# Altium schematic symbol library Connector DSUB.SchLib: 33 symbols
Pins are listed as number, name and electrical type; pins without a type are passive.

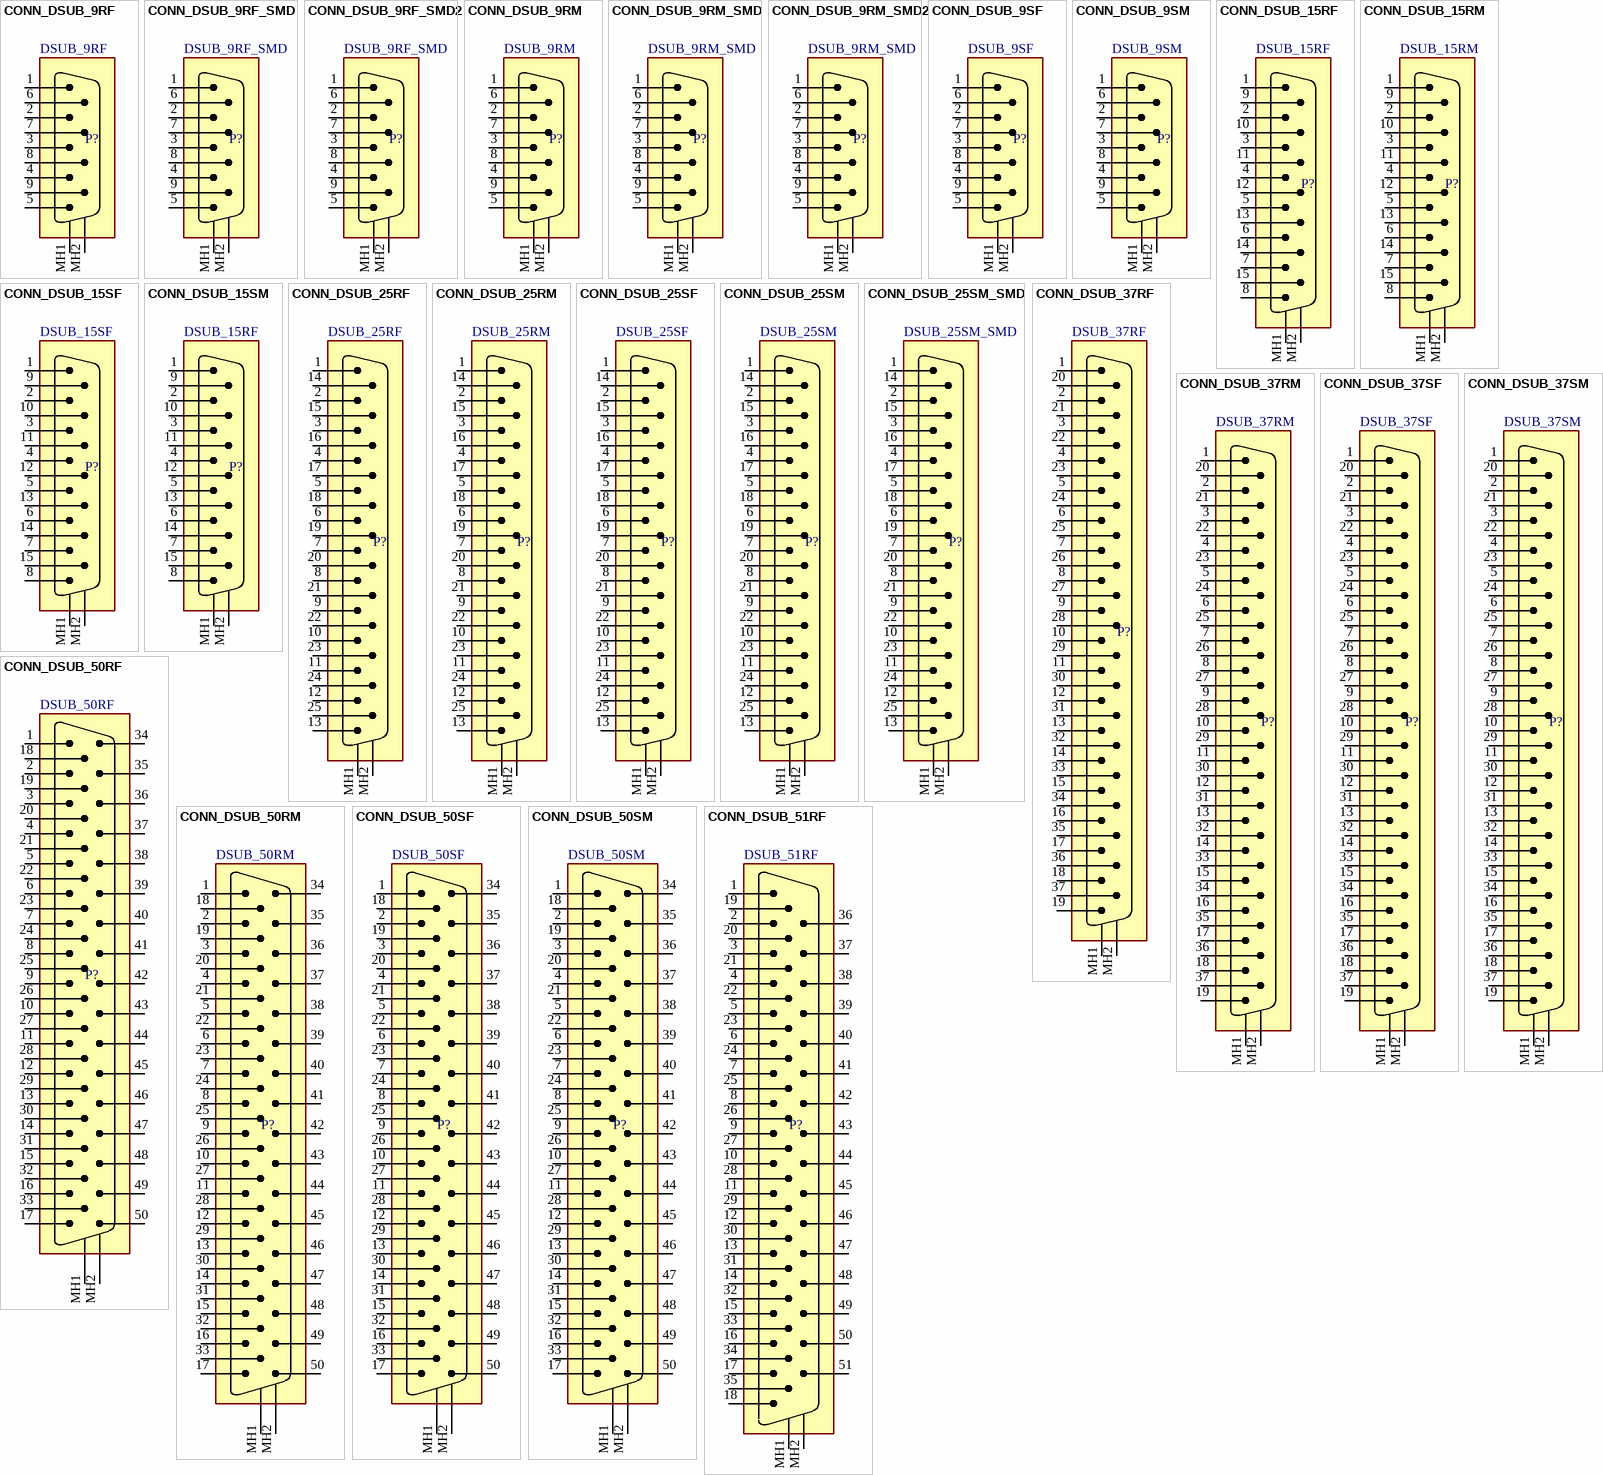
[diagram p0: symbols CONN_DSUB_9RF to CONN_DSUB_51RF]

## CONN_DSUB_9RF
designator P?, comment DSUB_9RF
CONN, DSUB, HD, 9PIN, R/A, FEMALE, THD; MANF_P#: -; MANF: -; VALUE: DSUB_9RF
footprint DSUB_9RF (CONN, DSUB MINIATURE, 9PIN, R/A, FEMALE)
pins: 1, 2, 3, 4, 5, 6, 7, 8, 9, MH1, MH2

## CONN_DSUB_9RF_SMD
designator P?, comment DSUB_9RF_SMD
CONN, DSUB, HD, 9PIN, R/A, FEMALE, THD; MANF_P#: K202XHT-E9S-N; MANF: KYCON; VALUE: DSUB_9RF_SMD
footprint DSUB_9RF_SMD (CONN, DSUB MINIATURE, 9PIN, R/A, FEMALE, KYCON K202XHT-E9S-N)
pins: 1, 2, 3, 4, 5, 6, 7, 8, 9, MH1, MH2

## CONN_DSUB_9RF_SMD2
designator P?, comment DSUB_9RF_SMD
CONN, DSUB, HD, 9PIN, R/A, FEMALE, SMD; MANF_P#: 190-009-263R001; MANF: NORDIC; VALUE: DSUB_9RF_SMD
footprint DSUB_9RF_NORDIC (CONN, DSUB MINIATURE, 9PIN, R/A, FEMALE, SMD, NORDIC 190-009-263R001)
pins: 1, 2, 3, 4, 5, 6, 7, 8, 9, MH1, MH2

## CONN_DSUB_9RM
designator P?, comment DSUB_9RM
CONN, DSUB, HD, 9PIN, R/A, MALE, THD; MANF_P#: -; MANF: -; VALUE: DSUB_9RM
footprint DSUB_9RM (CONN, DSUB MINIATURE, 9PIN, R/A, MALE)
pins: 1, 2, 3, 4, 5, 6, 7, 8, 9, MH1, MH2

## CONN_DSUB_9RM_SMD
designator P?, comment DSUB_9RM_SMD
CONN, DSUB, HD, 9PIN, R/A, MALE, SMD; MANF_P#: K202XHT-E9P-N; MANF: KYCON; VALUE: DSUB_9RM_SMD
footprint DSUB_9RM_SMD (CONN, DSUB MINIATURE, 9PIN, R/A, MALE, SMD, KYCON K202XHT-E9P-N)
pins: 1, 2, 3, 4, 5, 6, 7, 8, 9, MH1, MH2

## CONN_DSUB_9RM_SMD2
designator P?, comment DSUB_9RM_SMD
CONN, DSUB, HD, 9PIN, R/A, MALE, SMD; MANF_P#: 190-009-163R001; MANF: NORDIC; VALUE: DSUB_9RM_SMD
footprint DSUB_9RM_NORDIC (CONN, DSUB MINIATURE, 9PIN, R/A, MALE, SMD, NORDIC 190-009-163R001)
pins: 1, 2, 3, 4, 5, 6, 7, 8, 9, MH1, MH2

## CONN_DSUB_9SF
designator P?, comment DSUB_9SF
CONN, DSUB, HD, 9PIN, R/A, FMALE, THD; MANF_P#: -; MANF: -; VALUE: DSUB_9SF
footprint DSUB_9SF (CONN, DSUB MINIATURE, 9PIN, STRAIGHT, FEMALE)
pins: 1, 2, 3, 4, 5, 6, 7, 8, 9, MH1, MH2

## CONN_DSUB_9SM
designator P?, comment DSUB_9SM
CONN, DSUB, HD, 9PIN, STRAIGHT, MALE, THD; MANF_P#: -; MANF: -; VALUE: DSUB_9SM
footprint DSUB_9SM (CONN, DSUB MINIATURE, 9PIN, STRAIGHT, MALE)
pins: 1, 2, 3, 4, 5, 6, 7, 8, 9, MH1, MH2

## CONN_DSUB_15RF
designator P?, comment DSUB_15RF
CONN, DSUB, HD, 15PIN, R/A, FEMALE, THD; MANF_P#: -; MANF: -; VALUE: DSUB_15RF
footprint DSUB_15RF (CONN, DSUB MINIATURE, 15PIN, R/A, FEMALE)
pins: 1, 2, 3, 4, 5, 6, 7, 8, 9, 10, 11, 12, 13, 14, 15, MH1, MH2

## CONN_DSUB_15RM
designator P?, comment DSUB_15RM
CONN, DSUB, HD, 15PIN, R/A, MALE, THD; MANF_P#: -; MANF: -; VALUE: DSUB_15RM
footprint DSUB_15RM (CONN, DSUB MINIATURE, 15PIN, R/A, MALE)
pins: 1, 2, 3, 4, 5, 6, 7, 8, 9, 10, 11, 12, 13, 14, 15, MH1, MH2

## CONN_DSUB_15SF
designator P?, comment DSUB_15SF
CONN, DSUB, HD, 15PIN, STRAIGHT, FEMALE, THD; MANF_P#: -; MANF: -; VALUE: DSUB_15SF
footprint DSUB_15SF (CONN, DSUB MINIATURE, 15PIN, STRAIGHT, FEMALE (SOCKET))
pins: 1, 2, 3, 4, 5, 6, 7, 8, 9, 10, 11, 12, 13, 14, 15, MH1, MH2

## CONN_DSUB_15SM
designator P?, comment DSUB_15RF
CONN, DSUB, HD, 15PIN, STRAIGHT, FEMALE, THD; MANF_P#: -; MANF: -; VALUE: DSUB_15RF
footprint DSUB_15SF (CONN, DSUB MINIATURE, 15PIN, STRAIGHT, FEMALE (SOCKET))
pins: 1, 2, 3, 4, 5, 6, 7, 8, 9, 10, 11, 12, 13, 14, 15, MH1, MH2

## CONN_DSUB_25RF
designator P?, comment DSUB_25RF
CONN, DSUB, HD, 25PIN, R/A, FEMALE, THD; MANF_P#: -; MANF: -; VALUE: DSUB_25RF
footprint DSUB_25RF (CONN, DSUB MINIATURE, 25 WAY, RIGHT-ANGLE, FEMALE)
pins: 1, 2, 3, 4, 5, 6, 7, 8, 9, 10, 11, 12, 13, 14, 15, 16, 17, 18, 19, 20, 21, 22, 23, 24, 25, MH1, MH2

## CONN_DSUB_25RM
designator P?, comment DSUB_25RM
CONN, DSUB, HD, 25PIN, R/A, MALE, THD; MANF_P#: -; MANF: -; VALUE: DSUB_25RM
footprint DSUB_25RM (CONN, DSUB MINIATURE, 25 WAY, RIGHT-ANGLE, MALE)
pins: 1, 2, 3, 4, 5, 6, 7, 8, 9, 10, 11, 12, 13, 14, 15, 16, 17, 18, 19, 20, 21, 22, 23, 24, 25, MH1, MH2

## CONN_DSUB_25SF
designator P?, comment DSUB_25SF
CONN, DSUB, HD, 25PIN, STRAIGHT, FEMALE, THD; MANF_P#: -; MANF: -; VALUE: DSUB_25SF
footprint DSUB_25SF (CONN, DSUB MINIATURE, 25PIN, STRAIGHT, FEMALE (SOCKET))
pins: 1, 2, 3, 4, 5, 6, 7, 8, 9, 10, 11, 12, 13, 14, 15, 16, 17, 18, 19, 20, 21, 22, 23, 24, 25, MH1, MH2

## CONN_DSUB_25SM
designator P?, comment DSUB_25SM
CONN, DSUB, HD, 25PIN, STRAIGHT, FEMALE, THD; MANF_P#: -; MANF: -; VALUE: DSUB_25SM
footprint DSUB_25SM (CONN, DSUB MINIATURE, 25PIN, STRAIGHT, MALE)
pins: 1, 2, 3, 4, 5, 6, 7, 8, 9, 10, 11, 12, 13, 14, 15, 16, 17, 18, 19, 20, 21, 22, 23, 24, 25, MH1, MH2

## CONN_DSUB_25SM_SMD
designator P?, comment DSUB_25SM_SMD
CONN, DSUB, HD, 25PIN, STRAIGHT, FEMALE, THD; MANF_P#: -; MANF: -; VALUE: DSUB_25SM_SMD
footprint DSUB_25SM_SMD (CONN, DSUB MINIATURE, 25PIN, MALE, STRAIGHT, SURFACE MOUNT)
pins: 1, 2, 3, 4, 5, 6, 7, 8, 9, 10, 11, 12, 13, 14, 15, 16, 17, 18, 19, 20, 21, 22, 23, 24, 25, MH1, MH2

## CONN_DSUB_37RF
designator P?, comment DSUB_37RF
CONN, DSUB, HD, 37PIN, R/A, FEMALE, THD; MANF_P#: -; MANF: -; VALUE: DSUB_37RF
footprint DSUB_37RF (CONN, DSUB MINIATURE, CONN, DSUB MINIATURE, 37PIN, R/A, FEMALE)
pins: 1, 2, 3, 4, 5, 6, 7, 8, 9, 10, 11, 12, 13, 14, 15, 16, 17, 18, 19, 20, 21, 22, 23, 24, 25, 26, 27, 28, 29, 30, 31, 32, 33, 34, 35, 36, 37, MH1, MH2

## CONN_DSUB_37RM
designator P?, comment DSUB_37RM
CONN, DSUB, HD, 37PIN, R/A, MALE, THD; MANF_P#: -; MANF: -; VALUE: DSUB_37RM
footprint DSUB_37RM (CONN, DSUB MINIATURE, 37PIN, R/A, MALE)
pins: 1, 2, 3, 4, 5, 6, 7, 8, 9, 10, 11, 12, 13, 14, 15, 16, 17, 18, 19, 20, 21, 22, 23, 24, 25, 26, 27, 28, 29, 30, 31, 32, 33, 34, 35, 36, 37, MH1, MH2

## CONN_DSUB_37SF
designator P?, comment DSUB_37SF
CONN, DSUB, HD, 37PIN, STRAIGHT, FEMALE, THD; MANF_P#: -; MANF: -; VALUE: DSUB_37SF
footprint DSUB_37SF (CONN, DSUB MINIATURE, 37PIN, STRAIGHT, FEMALE)
pins: 1, 2, 3, 4, 5, 6, 7, 8, 9, 10, 11, 12, 13, 14, 15, 16, 17, 18, 19, 20, 21, 22, 23, 24, 25, 26, 27, 28, 29, 30, 31, 32, 33, 34, 35, 36, 37, MH1, MH2

## CONN_DSUB_37SM
designator P?, comment DSUB_37SM
CONN, DSUB, HD, 37PIN, STRAIGHT, MALE, THD; MANF_P#: -; MANF: -; VALUE: DSUB_37SM
footprint DSUB_37SM (CONN, DSUB MINIATURE, 37PIN, STRAIGHT, MALE)
pins: 1, 2, 3, 4, 5, 6, 7, 8, 9, 10, 11, 12, 13, 14, 15, 16, 17, 18, 19, 20, 21, 22, 23, 24, 25, 26, 27, 28, 29, 30, 31, 32, 33, 34, 35, 36, 37, MH1, MH2

## CONN_DSUB_50RF
designator P?, comment DSUB_50RF
CONN, DSUB, HD, 50PIN, R/A, FEMALE, THD; MANF_P#: -; MANF: -; VALUE: DSUB_50RF
footprint DSUB_50RF (CONN, DSUB MINIATURE, CONN, DSUB MINIATURE, 50PIN, R/A, FEMALE)
pins: 1, 2, 3, 4, 5, 6, 7, 8, 9, 10, 11, 12, 13, 14, 15, 16, 17, 18, 19, 20, 21, 22, 23, 24, 25, 26, 27, 28, 29, 30, 31, 32, 33, 34, 35, 36, 37, 38, 39, 40, 41, 42, 43, 44, 45, 46, 47, 48, 49, 50, MH1, MH2

## CONN_DSUB_50RM
designator P?, comment DSUB_50RM
CONN, DSUB, HD, 50PIN, R/A, MALE, THD; MANF_P#: -; MANF: -; VALUE: DSUB_50RM
footprint DSUB_50RM (CONN, DSUB MINIATURE, CONN, DSUB MINIATURE, 50PIN, R/A, MALE)
pins: 1, 2, 3, 4, 5, 6, 7, 8, 9, 10, 11, 12, 13, 14, 15, 16, 17, 18, 19, 20, 21, 22, 23, 24, 25, 26, 27, 28, 29, 30, 31, 32, 33, 34, 35, 36, 37, 38, 39, 40, 41, 42, 43, 44, 45, 46, 47, 48, 49, 50, MH1, MH2

## CONN_DSUB_50SF
designator P?, comment DSUB_50SF
CONN, DSUB, HD, 50PIN, STRAIGHT, FEMALE, THD; MANF_P#: -; MANF: -; VALUE: DSUB_50SF
footprint DSUB_50SF (CONN, DSUB MINIATURE, 50PIN, STRAIGHT, FEMALE)
pins: 1, 2, 3, 4, 5, 6, 7, 8, 9, 10, 11, 12, 13, 14, 15, 16, 17, 18, 19, 20, 21, 22, 23, 24, 25, 26, 27, 28, 29, 30, 31, 32, 33, 34, 35, 36, 37, 38, 39, 40, 41, 42, 43, 44, 45, 46, 47, 48, 49, 50, MH1, MH2

## CONN_DSUB_50SM
designator P?, comment DSUB_50SM
CONN, DSUB, HD, 50PIN, STRAIGHT, MALE, THD; MANF_P#: -; MANF: -; VALUE: DSUB_50SM
footprint DSUB_50SM (CONN, DSUB MINIATURE, 50PIN, STRAIGHT, MALE)
pins: 1, 2, 3, 4, 5, 6, 7, 8, 9, 10, 11, 12, 13, 14, 15, 16, 17, 18, 19, 20, 21, 22, 23, 24, 25, 26, 27, 28, 29, 30, 31, 32, 33, 34, 35, 36, 37, 38, 39, 40, 41, 42, 43, 44, 45, 46, 47, 48, 49, 50, MH1, MH2

## CONN_DSUB_51RF
designator P?, comment DSUB_51RF
CONN, DSUB, HD, 50PIN, R/A, FEMALE, J30J series; MANF_P#: J30J-51ZKW-J; MANF: KAIDA; VALUE: DSUB_51RF
footprint DSUB_51RF (Footprint not found)
pins: 1, 2, 3, 4, 5, 6, 7, 8, 9, 10, 11, 12, 13, 14, 15, 16, 17, 18, 19, 20, 21, 22, 23, 24, 25, 26, 27, 28, 29, 30, 31, 32, 33, 34, 35, 36, 37, 38, 39, 40, 41, 42, 43, 44, 45, 46, 47, 48, 49, 50, 51, MH1, MH2

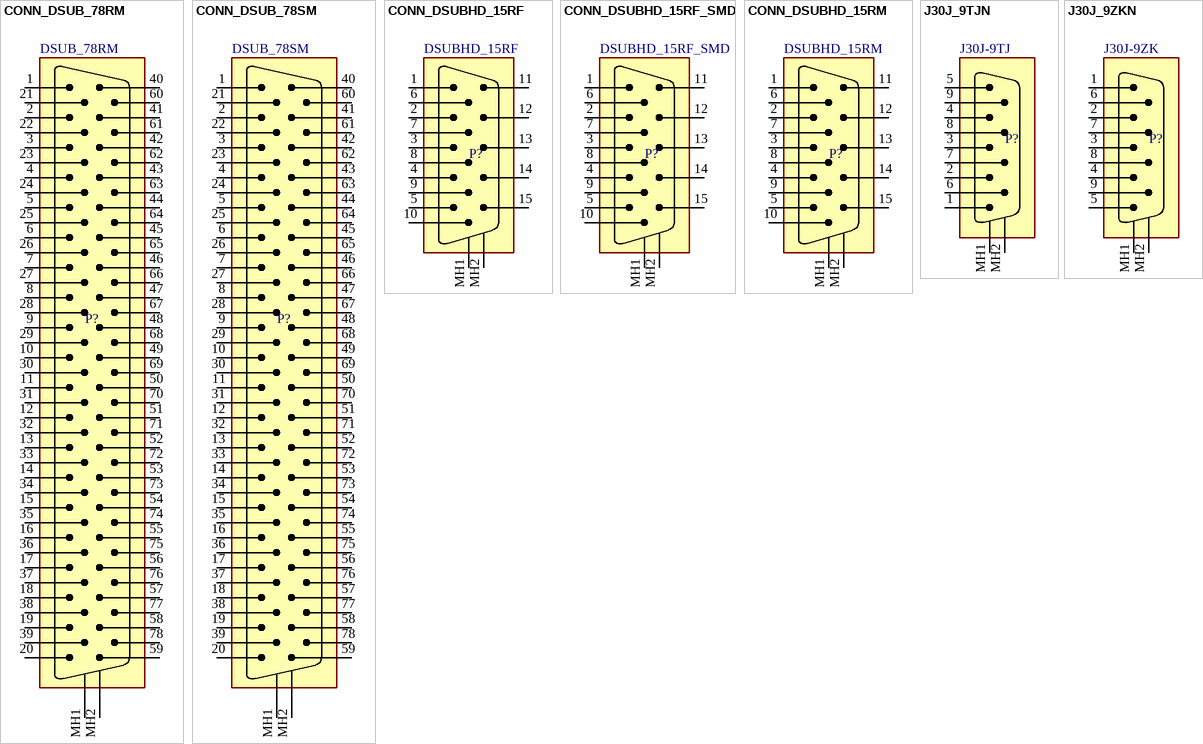
[diagram p1: symbols CONN_DSUB_78RM to J30J_9ZKN]

## CONN_DSUB_78RM
designator P?, comment DSUB_78RM
CONN, DSUB, HD, 78PIN, R/A, MALE, THD; MANF_P#: -; MANF: -; VALUE: DSUB_78RM
footprint DSUB_78RM (CONN, DSUB MINIATURE, CONN, DSUB MINIATURE, 78PIN, R/A, MALE)
pins: 1, 2, 3, 4, 5, 6, 7, 8, 9, 10, 11, 12, 13, 14, 15, 16, 17, 18, 19, 20, 21, 22, 23, 24, 25, 26, 27, 28, 29, 30, 31, 32, 33, 34, 35, 36, 37, 38, 39, 40, 41, 42, 43, 44, 45, 46, 47, 48, 49, 50, 51, 52, 53, 54, 55, 56, 57, 58, 59, 60, 61, 62, 63, 64, 65, 66, 67, 68, 69, 70, 71, 72, 73, 74, 75, 76, 77, 78, MH1, MH2

## CONN_DSUB_78SM
designator P?, comment DSUB_78SM
CONN, DSUB, HD, 78PIN, STRAIGHT, MALE, THD; MANF_P#: -; MANF: -; VALUE: DSUB_78SM
footprint DSUB_78SM (CONN, DSUB MINIATURE, CONN, DSUB MINIATURE, 78PIN, STRAIGHT, MALE)
pins: 1, 2, 3, 4, 5, 6, 7, 8, 9, 10, 11, 12, 13, 14, 15, 16, 17, 18, 19, 20, 21, 22, 23, 24, 25, 26, 27, 28, 29, 30, 31, 32, 33, 34, 35, 36, 37, 38, 39, 40, 41, 42, 43, 44, 45, 46, 47, 48, 49, 50, 51, 52, 53, 54, 55, 56, 57, 58, 59, 60, 61, 62, 63, 64, 65, 66, 67, 68, 69, 70, 71, 72, 73, 74, 75, 76, 77, 78, MH1, MH2

## CONN_DSUBHD_15RF
designator P?, comment DSUBHD_15RF
CONN, DSUB, HD, 15PIN, R/A, FEMALE, THD; MANF_P#: -; MANF: -; VALUE: DSUBHD_15RF
footprint DSUBHD_15RF (D'SUB MINIATURE HIGH DENSITY 15p, RightAngle, Female, VGA)
pins: 1, 2, 3, 4, 5, 6, 7, 8, 9, 10, 11, 12, 13, 14, 15, MH1, MH2

## CONN_DSUBHD_15RF_SMD
designator P?, comment DSUBHD_15RF_SMD
CONN, DSUB, HD, 15PIN, R/A, FEMALE, SMD; MANF_P#: 200-015-263R001; MANF: NorComp; VALUE: DSUBHD_15RF_SMD
footprint DSUBHD_15RF_SMD (CONN, DSUB MINIATURE, NorComp 200-015-263R001 VGA)
pins: 1, 2, 3, 4, 5, 6, 7, 8, 9, 10, 11, 12, 13, 14, 15, MH1, MH2

## CONN_DSUBHD_15RM
designator P?, comment DSUBHD_15RM
CONN, DSUB, HD, 15PIN, R/A, MALE, THD; MANF_P#: -; MANF: -; VALUE: DSUBHD_15RM
footprint DSUBHD_15RM (D'SUB MINIATURE HIGH DENSITY 15p, RightAngle, Male, VGA)
pins: 1, 2, 3, 4, 5, 6, 7, 8, 9, 10, 11, 12, 13, 14, 15, MH1, MH2

## J30J_9TJN
designator P?, comment J30J-9TJ
CONN, DSUB, HD, 9PIN, STRAIGHT, PLUG, THD; MANF_P#: J30J-9TJN; MANF: ANOVAY; VALUE: J30J-9TJ
footprint J30J_9TJN (J30J-9TJN ANOVAY)
pins: 1, 2, 3, 4, 5, 6, 7, 8, 9, MH1, MH2

## J30J_9ZKN
designator P?, comment J30J-9ZK
CONN, DSUB, HD, 9PIN, STRAIGHT, RECEPTACLE, THD; MANF_P#: J30J-9ZKN; MANF: ANOVAY; VALUE: J30J-9ZK
footprint J30J_9ZKN (J30J-9ZKN ANOVAY)
pins: 1, 2, 3, 4, 5, 6, 7, 8, 9, MH1, MH2